# Altium integrated library Lattice SPLD GAL.IntLib: 360 symbols (part 5 of 9)
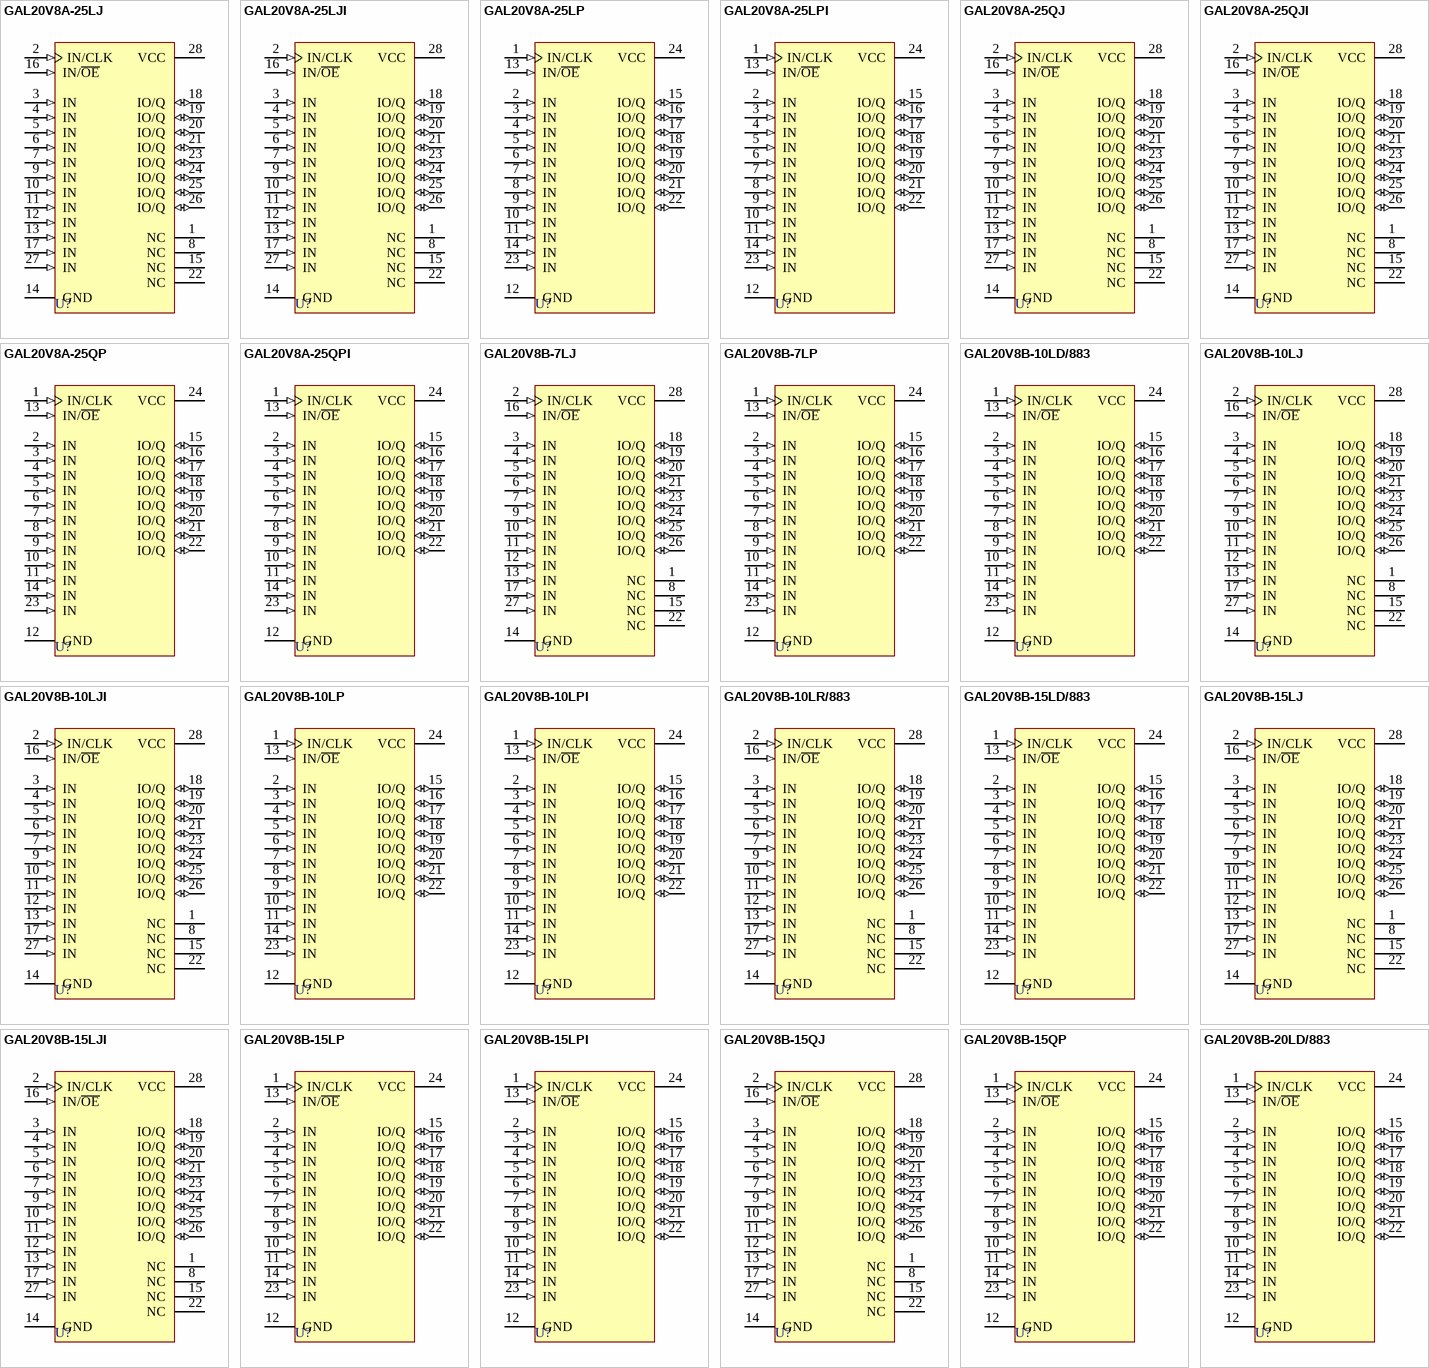
[diagram p17: symbols GAL20V8A-25LJ to GAL20V8B-20LD/883]

## GAL20V8A-25LJI
designator U?
GAL20V8A High Performance E²CMOS PLD Generic Array Logic: 5.0 V, 25 ns, Industrial Grade; Note: Pins 1, 8, 15 and 22 are No internal Connection (NC) pins.; Published: 8-Jun-2000; LatestRevisionDate: 13-Apr-2006; LatestRevisionNote: IPC-7351 Footprint Added.; DatasheetVersion: May-1992; PackageVersion: pkg_32, Aug-2005; PackageReference: PLCC28; Publisher: Altium Limited; PackageDescription: 28-Pin Leaded Chip Carrier 1.27 mm Pitch; Code_IPC: PLCC-28; ComponentLink1Description: Manufacturer Link; ComponentLink1URL: http://www.latticesemi.com/products/spld/GAL/index.cfm
footprint PLCC28_N (Leaded Chip Carrier, 28-Leads, Body 11.5x11.5mm, Pitch 1.27mm, IPC Medium Density)
footprint PLCC28_L (Leaded Chip Carrier, 28-Leads, Body 11.5x11.5mm, Pitch 1.27mm, IPC High Density)
footprint PLCC28_M (Leaded Chip Carrier, 28-Leads, Body 11.5x11.5mm, Pitch 1.27mm, IPC Low Density)
3D model 20V8-PLCC28 (28-Pin Leaded Chip Carrier 1.27 mm Pitch)
pins: 1 NC, 2 IN/CLK (in), 3 IN (in), 4 IN (in), 5 IN (in), 6 IN (in), 7 IN (in), 8 NC, 9 IN (in), 10 IN (in), 11 IN (in), 12 IN (in), 13 IN (in), 14 GND (power), 15 NC, 16 IN/~{OE} (in), 17 IN (in), 18 IO/Q (io), 19 IO/Q (io), 20 IO/Q (io), 21 IO/Q (io), 22 NC, 23 IO/Q (io), 24 IO/Q (io), 25 IO/Q (io), 26 IO/Q (io), 27 IN (in), 28 VCC (power)

## GAL20V8A-25LP
designator U?
GAL20V8A High Performance E²CMOS PLD Generic Array Logic: 5.0 V, 25 ns, Commercial Grade; Published: 8-Jun-2000; LatestRevisionDate: 04-Mar-2005; LatestRevisionNote: Stylized 3D Model Added.; DatasheetVersion: May-1992; PackageVersion: pkg_32, Aug-2005; PackageReference: PDIP24; Publisher: Altium Limited; PackageDescription: DIP; 24 Leads; Row Spacing 7.62 mm; Pitch 2.54 mm; Code_JEDEC: MS-001-AF; ComponentLink1Description: Manufacturer Link; ComponentLink1URL: http://www.latticesemi.com/products/spld/GAL/index.cfm
footprint PDIP24 (DIP; 24 Leads; Row Spacing 7.62 mm; Pitch 2.54 mm)
3D model DIP24 (DIP; 24 Leads; Row Spacing 7.62 mm; Pitch 2.54 mm)
pins: 1 IN/CLK (in), 2 IN (in), 3 IN (in), 4 IN (in), 5 IN (in), 6 IN (in), 7 IN (in), 8 IN (in), 9 IN (in), 10 IN (in), 11 IN (in), 12 GND (power), 13 IN/~{OE} (in), 14 IN (in), 15 IO/Q (io), 16 IO/Q (io), 17 IO/Q (io), 18 IO/Q (io), 19 IO/Q (io), 20 IO/Q (io), 21 IO/Q (io), 22 IO/Q (io), 23 IN (in), 24 VCC (power)

## GAL20V8A-25LPI
designator U?
GAL20V8A High Performance E²CMOS PLD Generic Array Logic: 5.0 V, 25 ns, Industrial Grade; Published: 8-Jun-2000; LatestRevisionDate: 04-Mar-2005; LatestRevisionNote: Stylized 3D Model Added.; DatasheetVersion: May-1992; PackageVersion: pkg_32, Aug-2005; PackageReference: PDIP24; Publisher: Altium Limited; PackageDescription: DIP; 24 Leads; Row Spacing 7.62 mm; Pitch 2.54 mm; Code_JEDEC: MS-001-AF; ComponentLink1Description: Manufacturer Link; ComponentLink1URL: http://www.latticesemi.com/products/spld/GAL/index.cfm
footprint PDIP24 (DIP; 24 Leads; Row Spacing 7.62 mm; Pitch 2.54 mm)
3D model DIP24 (DIP; 24 Leads; Row Spacing 7.62 mm; Pitch 2.54 mm)
pins: 1 IN/CLK (in), 2 IN (in), 3 IN (in), 4 IN (in), 5 IN (in), 6 IN (in), 7 IN (in), 8 IN (in), 9 IN (in), 10 IN (in), 11 IN (in), 12 GND (power), 13 IN/~{OE} (in), 14 IN (in), 15 IO/Q (io), 16 IO/Q (io), 17 IO/Q (io), 18 IO/Q (io), 19 IO/Q (io), 20 IO/Q (io), 21 IO/Q (io), 22 IO/Q (io), 23 IN (in), 24 VCC (power)

## GAL20V8A-25QJ
designator U?
GAL20V8A High Performance E²CMOS PLD Generic Array Logic: 5.0 V, 25 ns, Commercial Grade; Note: Pins 1, 8, 15 and 22 are No internal Connection (NC) pins.; Published: 8-Jun-2000; LatestRevisionDate: 13-Apr-2006; LatestRevisionNote: IPC-7351 Footprint Added.; DatasheetVersion: May-1992; PackageVersion: pkg_32, Aug-2005; PackageReference: PLCC28; Publisher: Altium Limited; PackageDescription: 28-Pin Leaded Chip Carrier 1.27 mm Pitch; Code_IPC: PLCC-28; ComponentLink1Description: Manufacturer Link; ComponentLink1URL: http://www.latticesemi.com/products/spld/GAL/index.cfm
footprint PLCC28_N (Leaded Chip Carrier, 28-Leads, Body 11.5x11.5mm, Pitch 1.27mm, IPC Medium Density)
footprint PLCC28_L (Leaded Chip Carrier, 28-Leads, Body 11.5x11.5mm, Pitch 1.27mm, IPC High Density)
footprint PLCC28_M (Leaded Chip Carrier, 28-Leads, Body 11.5x11.5mm, Pitch 1.27mm, IPC Low Density)
3D model 20V8-PLCC28 (28-Pin Leaded Chip Carrier 1.27 mm Pitch)
pins: 1 NC, 2 IN/CLK (in), 3 IN (in), 4 IN (in), 5 IN (in), 6 IN (in), 7 IN (in), 8 NC, 9 IN (in), 10 IN (in), 11 IN (in), 12 IN (in), 13 IN (in), 14 GND (power), 15 NC, 16 IN/~{OE} (in), 17 IN (in), 18 IO/Q (io), 19 IO/Q (io), 20 IO/Q (io), 21 IO/Q (io), 22 NC, 23 IO/Q (io), 24 IO/Q (io), 25 IO/Q (io), 26 IO/Q (io), 27 IN (in), 28 VCC (power)

## GAL20V8A-25QJI
designator U?
GAL20V8A High Performance E²CMOS PLD Generic Array Logic: 5.0 V, 25 ns, Industrial Grade; Note: Pins 1, 8, 15 and 22 are No internal Connection (NC) pins.; Published: 8-Jun-2000; LatestRevisionDate: 13-Apr-2006; LatestRevisionNote: IPC-7351 Footprint Added.; DatasheetVersion: May-1992; PackageVersion: pkg_32, Aug-2005; PackageReference: PLCC28; Publisher: Altium Limited; PackageDescription: 28-Pin Leaded Chip Carrier 1.27 mm Pitch; Code_IPC: PLCC-28; ComponentLink1Description: Manufacturer Link; ComponentLink1URL: http://www.latticesemi.com/products/spld/GAL/index.cfm
footprint PLCC28_N (Leaded Chip Carrier, 28-Leads, Body 11.5x11.5mm, Pitch 1.27mm, IPC Medium Density)
footprint PLCC28_L (Leaded Chip Carrier, 28-Leads, Body 11.5x11.5mm, Pitch 1.27mm, IPC High Density)
footprint PLCC28_M (Leaded Chip Carrier, 28-Leads, Body 11.5x11.5mm, Pitch 1.27mm, IPC Low Density)
3D model 20V8-PLCC28 (28-Pin Leaded Chip Carrier 1.27 mm Pitch)
pins: 1 NC, 2 IN/CLK (in), 3 IN (in), 4 IN (in), 5 IN (in), 6 IN (in), 7 IN (in), 8 NC, 9 IN (in), 10 IN (in), 11 IN (in), 12 IN (in), 13 IN (in), 14 GND (power), 15 NC, 16 IN/~{OE} (in), 17 IN (in), 18 IO/Q (io), 19 IO/Q (io), 20 IO/Q (io), 21 IO/Q (io), 22 NC, 23 IO/Q (io), 24 IO/Q (io), 25 IO/Q (io), 26 IO/Q (io), 27 IN (in), 28 VCC (power)

## GAL20V8A-25QP
designator U?
GAL20V8A High Performance E²CMOS PLD Generic Array Logic: 5.0 V, 25 ns, Commercial Grade; Published: 8-Jun-2000; LatestRevisionDate: 04-Mar-2005; LatestRevisionNote: Stylized 3D Model Added.; DatasheetVersion: May-1992; PackageVersion: pkg_32, Aug-2005; PackageReference: PDIP24; Publisher: Altium Limited; PackageDescription: DIP; 24 Leads; Row Spacing 7.62 mm; Pitch 2.54 mm; Code_JEDEC: MS-001-AF; ComponentLink1Description: Manufacturer Link; ComponentLink1URL: http://www.latticesemi.com/products/spld/GAL/index.cfm
footprint PDIP24 (DIP; 24 Leads; Row Spacing 7.62 mm; Pitch 2.54 mm)
3D model DIP24 (DIP; 24 Leads; Row Spacing 7.62 mm; Pitch 2.54 mm)
pins: 1 IN/CLK (in), 2 IN (in), 3 IN (in), 4 IN (in), 5 IN (in), 6 IN (in), 7 IN (in), 8 IN (in), 9 IN (in), 10 IN (in), 11 IN (in), 12 GND (power), 13 IN/~{OE} (in), 14 IN (in), 15 IO/Q (io), 16 IO/Q (io), 17 IO/Q (io), 18 IO/Q (io), 19 IO/Q (io), 20 IO/Q (io), 21 IO/Q (io), 22 IO/Q (io), 23 IN (in), 24 VCC (power)

## GAL20V8A-25QPI
designator U?
GAL20V8A High Performance E²CMOS PLD Generic Array Logic: 5.0 V, 25 ns, Industrial Grade; Published: 8-Jun-2000; LatestRevisionDate: 04-Mar-2005; LatestRevisionNote: Stylized 3D Model Added.; DatasheetVersion: May-1992; PackageVersion: pkg_32, Aug-2005; PackageReference: PDIP24; Publisher: Altium Limited; PackageDescription: DIP; 24 Leads; Row Spacing 7.62 mm; Pitch 2.54 mm; Code_JEDEC: MS-001-AF; ComponentLink1Description: Manufacturer Link; ComponentLink1URL: http://www.latticesemi.com/products/spld/GAL/index.cfm
footprint PDIP24 (DIP; 24 Leads; Row Spacing 7.62 mm; Pitch 2.54 mm)
3D model DIP24 (DIP; 24 Leads; Row Spacing 7.62 mm; Pitch 2.54 mm)
pins: 1 IN/CLK (in), 2 IN (in), 3 IN (in), 4 IN (in), 5 IN (in), 6 IN (in), 7 IN (in), 8 IN (in), 9 IN (in), 10 IN (in), 11 IN (in), 12 GND (power), 13 IN/~{OE} (in), 14 IN (in), 15 IO/Q (io), 16 IO/Q (io), 17 IO/Q (io), 18 IO/Q (io), 19 IO/Q (io), 20 IO/Q (io), 21 IO/Q (io), 22 IO/Q (io), 23 IN (in), 24 VCC (power)

## GAL20V8B-7LJ
designator U?
GAL20V8 High Performance E²CMOS PLD Generic Array Logic: 5.0 V, 7.5 ns, Commercial Grade; Published: 8-Jun-2000; LatestRevisionDate: 13-Apr-2006; LatestRevisionNote: IPC-7351 Footprint Added.; DatasheetVersion: 20v8_04, Aug-2000; PackageVersion: pkg_32, Aug-2005; PackageReference: PLCC28; Publisher: Altium Limited; PackageDescription: 28-Pin Leaded Chip Carrier 1.27 mm Pitch; Code_IPC: PLCC-28; ComponentLink1Description: Manufacturer Link; ComponentLink1URL: http://www.latticesemi.com/products/spld/GAL/index.cfm; ComponentLink2Description: Datasheet; ComponentLink2URL: http://www.latticesemi.com/lit/docs/datasheets/pal_gal/20v8.pdf
footprint PLCC28_N (Leaded Chip Carrier, 28-Leads, Body 11.5x11.5mm, Pitch 1.27mm, IPC Medium Density)
footprint PLCC28_L (Leaded Chip Carrier, 28-Leads, Body 11.5x11.5mm, Pitch 1.27mm, IPC High Density)
footprint PLCC28_M (Leaded Chip Carrier, 28-Leads, Body 11.5x11.5mm, Pitch 1.27mm, IPC Low Density)
3D model 20V8-PLCC28 (28-Pin Leaded Chip Carrier 1.27 mm Pitch)
pins: 1 NC, 2 IN/CLK (in), 3 IN (in), 4 IN (in), 5 IN (in), 6 IN (in), 7 IN (in), 8 NC, 9 IN (in), 10 IN (in), 11 IN (in), 12 IN (in), 13 IN (in), 14 GND (power), 15 NC, 16 IN/~{OE} (in), 17 IN (in), 18 IO/Q (io), 19 IO/Q (io), 20 IO/Q (io), 21 IO/Q (io), 22 NC, 23 IO/Q (io), 24 IO/Q (io), 25 IO/Q (io), 26 IO/Q (io), 27 IN (in), 28 VCC (power)

## GAL20V8B-7LP
designator U?
GAL20V8 High Performance E²CMOS PLD Generic Array Logic: 5.0 V, 7.5 ns, Commercial Grade; Published: 8-Jun-2000; LatestRevisionDate: 04-Mar-2005; LatestRevisionNote: Stylized 3D Model Added.; DatasheetVersion: 20v8_04, Aug-2000; PackageVersion: pkg_32, Aug-2005; PackageReference: PDIP24; Publisher: Altium Limited; PackageDescription: DIP; 24 Leads; Row Spacing 7.62 mm; Pitch 2.54 mm; Code_JEDEC: MS-001-AF; ComponentLink1Description: Manufacturer Link; ComponentLink1URL: http://www.latticesemi.com/products/spld/GAL/index.cfm; ComponentLink2Description: Datasheet; ComponentLink2URL: http://www.latticesemi.com/lit/docs/datasheets/pal_gal/20v8.pdf
footprint PDIP24 (DIP; 24 Leads; Row Spacing 7.62 mm; Pitch 2.54 mm)
3D model DIP24 (DIP; 24 Leads; Row Spacing 7.62 mm; Pitch 2.54 mm)
pins: 1 IN/CLK (in), 2 IN (in), 3 IN (in), 4 IN (in), 5 IN (in), 6 IN (in), 7 IN (in), 8 IN (in), 9 IN (in), 10 IN (in), 11 IN (in), 12 GND (power), 13 IN/~{OE} (in), 14 IN (in), 15 IO/Q (io), 16 IO/Q (io), 17 IO/Q (io), 18 IO/Q (io), 19 IO/Q (io), 20 IO/Q (io), 21 IO/Q (io), 22 IO/Q (io), 23 IN (in), 24 VCC (power)

## GAL20V8B-10LD/883
designator U?
GAL20V8/883 High Performance E²CMOS PLD Generic Array Logic: 5.0 V, 10 ns, Military Grade; Published: 17-Jul-2002; LatestRevisionDate: 04-Mar-2005; LatestRevisionNote: Stylized 3D Model Added.; DatasheetVersion: 20v8mil_02, Jul-1997; PackageVersion: pkg_32, Aug-2005; PackageReference: CDIP24; Publisher: Altium Limited; PackageDescription: CerDIP; 24 Leads; Row Spacing 7.62 mm; Pitch 2.54 mm; Code_JEDEC: MS-001-AF; ComponentLink1Description: Manufacturer Link; ComponentLink1URL: http://www.latticesemi.com/products/spld/GAL/index.cfm; ComponentLink2Description: Datasheet; ComponentLink2URL: http://www.latticesemi.com/lit/docs/military/20v8mil.pdf
footprint CDIP24 (CerDIP; 24 Leads; Row Spacing 7.62 mm; Pitch 2.54 mm)
3D model DIP24 (CerDIP; 24 Leads; Row Spacing 7.62 mm; Pitch 2.54 mm)
pins: 1 IN/CLK (in), 2 IN (in), 3 IN (in), 4 IN (in), 5 IN (in), 6 IN (in), 7 IN (in), 8 IN (in), 9 IN (in), 10 IN (in), 11 IN (in), 12 GND (power), 13 IN/~{OE} (in), 14 IN (in), 15 IO/Q (io), 16 IO/Q (io), 17 IO/Q (io), 18 IO/Q (io), 19 IO/Q (io), 20 IO/Q (io), 21 IO/Q (io), 22 IO/Q (io), 23 IN (in), 24 VCC (power)

## GAL20V8B-10LJ
designator U?
GAL20V8 High Performance E²CMOS PLD Generic Array Logic: 5.0 V, 10 ns, Commercial Grade; Published: 8-Jun-2000; LatestRevisionDate: 13-Apr-2006; LatestRevisionNote: IPC-7351 Footprint Added.; DatasheetVersion: 20v8_04, Aug-2000; PackageVersion: pkg_32, Aug-2005; PackageReference: PLCC28; Publisher: Altium Limited; PackageDescription: 28-Pin Leaded Chip Carrier 1.27 mm Pitch; Code_IPC: PLCC-28; ComponentLink1Description: Manufacturer Link; ComponentLink1URL: http://www.latticesemi.com/products/spld/GAL/index.cfm; ComponentLink2Description: Datasheet; ComponentLink2URL: http://www.latticesemi.com/lit/docs/datasheets/pal_gal/20v8.pdf
footprint PLCC28_N (Leaded Chip Carrier, 28-Leads, Body 11.5x11.5mm, Pitch 1.27mm, IPC Medium Density)
footprint PLCC28_L (Leaded Chip Carrier, 28-Leads, Body 11.5x11.5mm, Pitch 1.27mm, IPC High Density)
footprint PLCC28_M (Leaded Chip Carrier, 28-Leads, Body 11.5x11.5mm, Pitch 1.27mm, IPC Low Density)
3D model 20V8-PLCC28 (28-Pin Leaded Chip Carrier 1.27 mm Pitch)
pins: 1 NC, 2 IN/CLK (in), 3 IN (in), 4 IN (in), 5 IN (in), 6 IN (in), 7 IN (in), 8 NC, 9 IN (in), 10 IN (in), 11 IN (in), 12 IN (in), 13 IN (in), 14 GND (power), 15 NC, 16 IN/~{OE} (in), 17 IN (in), 18 IO/Q (io), 19 IO/Q (io), 20 IO/Q (io), 21 IO/Q (io), 22 NC, 23 IO/Q (io), 24 IO/Q (io), 25 IO/Q (io), 26 IO/Q (io), 27 IN (in), 28 VCC (power)

## GAL20V8B-10LJI
designator U?
GAL20V8 High Performance E²CMOS PLD Generic Array Logic: 5.0 V, 10 ns, Industrial Grade; Published: 8-Jun-2000; LatestRevisionDate: 13-Apr-2006; LatestRevisionNote: IPC-7351 Footprint Added.; DatasheetVersion: 20v8_04, Aug-2000; PackageVersion: pkg_32, Aug-2005; PackageReference: PLCC28; Publisher: Altium Limited; PackageDescription: 28-Pin Leaded Chip Carrier 1.27 mm Pitch; Code_IPC: PLCC-28; ComponentLink1Description: Manufacturer Link; ComponentLink1URL: http://www.latticesemi.com/products/spld/GAL/index.cfm; ComponentLink2Description: Datasheet; ComponentLink2URL: http://www.latticesemi.com/lit/docs/datasheets/pal_gal/20v8.pdf
footprint PLCC28_N (Leaded Chip Carrier, 28-Leads, Body 11.5x11.5mm, Pitch 1.27mm, IPC Medium Density)
footprint PLCC28_L (Leaded Chip Carrier, 28-Leads, Body 11.5x11.5mm, Pitch 1.27mm, IPC High Density)
footprint PLCC28_M (Leaded Chip Carrier, 28-Leads, Body 11.5x11.5mm, Pitch 1.27mm, IPC Low Density)
3D model 20V8-PLCC28 (28-Pin Leaded Chip Carrier 1.27 mm Pitch)
pins: 1 NC, 2 IN/CLK (in), 3 IN (in), 4 IN (in), 5 IN (in), 6 IN (in), 7 IN (in), 8 NC, 9 IN (in), 10 IN (in), 11 IN (in), 12 IN (in), 13 IN (in), 14 GND (power), 15 NC, 16 IN/~{OE} (in), 17 IN (in), 18 IO/Q (io), 19 IO/Q (io), 20 IO/Q (io), 21 IO/Q (io), 22 NC, 23 IO/Q (io), 24 IO/Q (io), 25 IO/Q (io), 26 IO/Q (io), 27 IN (in), 28 VCC (power)

## GAL20V8B-10LP
designator U?
GAL20V8 High Performance E²CMOS PLD Generic Array Logic: 5.0 V, 10 ns, Commercial Grade; Published: 8-Jun-2000; LatestRevisionDate: 04-Mar-2005; LatestRevisionNote: Stylized 3D Model Added.; DatasheetVersion: 20v8_04, Aug-2000; PackageVersion: pkg_32, Aug-2005; PackageReference: PDIP24; Publisher: Altium Limited; PackageDescription: DIP; 24 Leads; Row Spacing 7.62 mm; Pitch 2.54 mm; Code_JEDEC: MS-001-AF; ComponentLink1Description: Manufacturer Link; ComponentLink1URL: http://www.latticesemi.com/products/spld/GAL/index.cfm; ComponentLink2Description: Datasheet; ComponentLink2URL: http://www.latticesemi.com/lit/docs/datasheets/pal_gal/20v8.pdf
footprint PDIP24 (DIP; 24 Leads; Row Spacing 7.62 mm; Pitch 2.54 mm)
3D model DIP24 (DIP; 24 Leads; Row Spacing 7.62 mm; Pitch 2.54 mm)
pins: 1 IN/CLK (in), 2 IN (in), 3 IN (in), 4 IN (in), 5 IN (in), 6 IN (in), 7 IN (in), 8 IN (in), 9 IN (in), 10 IN (in), 11 IN (in), 12 GND (power), 13 IN/~{OE} (in), 14 IN (in), 15 IO/Q (io), 16 IO/Q (io), 17 IO/Q (io), 18 IO/Q (io), 19 IO/Q (io), 20 IO/Q (io), 21 IO/Q (io), 22 IO/Q (io), 23 IN (in), 24 VCC (power)

## GAL20V8B-10LPI
designator U?
GAL20V8 High Performance E²CMOS PLD Generic Array Logic: 5.0 V, 10 ns, Industrial Grade; Published: 8-Jun-2000; LatestRevisionDate: 04-Mar-2005; LatestRevisionNote: Stylized 3D Model Added.; DatasheetVersion: 20v8_04, Aug-2000; PackageVersion: pkg_32, Aug-2005; PackageReference: PDIP24; Publisher: Altium Limited; PackageDescription: DIP; 24 Leads; Row Spacing 7.62 mm; Pitch 2.54 mm; Code_JEDEC: MS-001-AF; ComponentLink1Description: Manufacturer Link; ComponentLink1URL: http://www.latticesemi.com/products/spld/GAL/index.cfm; ComponentLink2Description: Datasheet; ComponentLink2URL: http://www.latticesemi.com/lit/docs/datasheets/pal_gal/20v8.pdf
footprint PDIP24 (DIP; 24 Leads; Row Spacing 7.62 mm; Pitch 2.54 mm)
3D model DIP24 (DIP; 24 Leads; Row Spacing 7.62 mm; Pitch 2.54 mm)
pins: 1 IN/CLK (in), 2 IN (in), 3 IN (in), 4 IN (in), 5 IN (in), 6 IN (in), 7 IN (in), 8 IN (in), 9 IN (in), 10 IN (in), 11 IN (in), 12 GND (power), 13 IN/~{OE} (in), 14 IN (in), 15 IO/Q (io), 16 IO/Q (io), 17 IO/Q (io), 18 IO/Q (io), 19 IO/Q (io), 20 IO/Q (io), 21 IO/Q (io), 22 IO/Q (io), 23 IN (in), 24 VCC (power)

## GAL20V8B-10LR/883
designator U?
GAL20V8/883 High Performance E²CMOS PLD Generic Array Logic: 5.0 V, 10 ns, Military Grade; Published: 17-Jul-2002; DatasheetVersion: 20v8mil_02, Jul-1997; PackageVersion: pkg_32, Aug-2005; PackageReference: LCC28; Publisher: Altium Limited; PackageDescription: Leadless Chip Carrier; 28 Terminals; Body 11.5 x 11.5 mm; ComponentLink1Description: Manufacturer Link; ComponentLink1URL: http://www.latticesemi.com/products/spld/GAL/index.cfm; ComponentLink2Description: Datasheet; ComponentLink2URL: http://www.latticesemi.com/lit/docs/military/20v8mil.pdf
footprint LCC28 (Leadless Chip Carrier; 28 Terminals; Body 11.5 x 11.5 mm)
pins: 1 NC, 2 IN/CLK (in), 3 IN (in), 4 IN (in), 5 IN (in), 6 IN (in), 7 IN (in), 8 NC, 9 IN (in), 10 IN (in), 11 IN (in), 12 IN (in), 13 IN (in), 14 GND (power), 15 NC, 16 IN/~{OE} (in), 17 IN (in), 18 IO/Q (io), 19 IO/Q (io), 20 IO/Q (io), 21 IO/Q (io), 22 NC, 23 IO/Q (io), 24 IO/Q (io), 25 IO/Q (io), 26 IO/Q (io), 27 IN (in), 28 VCC (power)

## GAL20V8B-15LD/883
designator U?
GAL20V8/883 High Performance E²CMOS PLD Generic Array Logic: 5.0 V, 15 ns, Military Grade; Published: 17-Jul-2002; LatestRevisionDate: 04-Mar-2005; LatestRevisionNote: Stylized 3D Model Added.; DatasheetVersion: 20v8mil_02, Jul-1997; PackageVersion: pkg_32, Aug-2005; PackageReference: CDIP24; Publisher: Altium Limited; PackageDescription: CerDIP; 24 Leads; Row Spacing 7.62 mm; Pitch 2.54 mm; Code_JEDEC: MS-001-AF; ComponentLink1Description: Manufacturer Link; ComponentLink1URL: http://www.latticesemi.com/products/spld/GAL/index.cfm; ComponentLink2Description: Datasheet; ComponentLink2URL: http://www.latticesemi.com/lit/docs/military/20v8mil.pdf
footprint CDIP24 (CerDIP; 24 Leads; Row Spacing 7.62 mm; Pitch 2.54 mm)
3D model DIP24 (CerDIP; 24 Leads; Row Spacing 7.62 mm; Pitch 2.54 mm)
pins: 1 IN/CLK (in), 2 IN (in), 3 IN (in), 4 IN (in), 5 IN (in), 6 IN (in), 7 IN (in), 8 IN (in), 9 IN (in), 10 IN (in), 11 IN (in), 12 GND (power), 13 IN/~{OE} (in), 14 IN (in), 15 IO/Q (io), 16 IO/Q (io), 17 IO/Q (io), 18 IO/Q (io), 19 IO/Q (io), 20 IO/Q (io), 21 IO/Q (io), 22 IO/Q (io), 23 IN (in), 24 VCC (power)

## GAL20V8B-15LJ
designator U?
GAL20V8 High Performance E²CMOS PLD Generic Array Logic: 5.0 V, 15 ns, Commercial Grade; Published: 17-Jul-2002; LatestRevisionDate: 13-Apr-2006; LatestRevisionNote: IPC-7351 Footprint Added.; DatasheetVersion: 20v8_04, Aug-2000; PackageVersion: pkg_32, Aug-2005; PackageReference: PLCC28; Publisher: Altium Limited; PackageDescription: 28-Pin Leaded Chip Carrier 1.27 mm Pitch; Code_IPC: PLCC-28; ComponentLink1Description: Manufacturer Link; ComponentLink1URL: http://www.latticesemi.com/products/spld/GAL/index.cfm; ComponentLink2Description: Datasheet; ComponentLink2URL: http://www.latticesemi.com/lit/docs/datasheets/pal_gal/20v8.pdf
footprint PLCC28_N (Leaded Chip Carrier, 28-Leads, Body 11.5x11.5mm, Pitch 1.27mm, IPC Medium Density)
footprint PLCC28_L (Leaded Chip Carrier, 28-Leads, Body 11.5x11.5mm, Pitch 1.27mm, IPC High Density)
footprint PLCC28_M (Leaded Chip Carrier, 28-Leads, Body 11.5x11.5mm, Pitch 1.27mm, IPC Low Density)
3D model 20V8-PLCC28 (28-Pin Leaded Chip Carrier 1.27 mm Pitch)
pins: 1 NC, 2 IN/CLK (in), 3 IN (in), 4 IN (in), 5 IN (in), 6 IN (in), 7 IN (in), 8 NC, 9 IN (in), 10 IN (in), 11 IN (in), 12 IN (in), 13 IN (in), 14 GND (power), 15 NC, 16 IN/~{OE} (in), 17 IN (in), 18 IO/Q (io), 19 IO/Q (io), 20 IO/Q (io), 21 IO/Q (io), 22 NC, 23 IO/Q (io), 24 IO/Q (io), 25 IO/Q (io), 26 IO/Q (io), 27 IN (in), 28 VCC (power)

## GAL20V8B-15LJI
designator U?
GAL20V8 High Performance E²CMOS PLD Generic Array Logic: 5.0 V, 15 ns, Industrial Grade; Published: 8-Jun-2000; LatestRevisionDate: 13-Apr-2006; LatestRevisionNote: IPC-7351 Footprint Added.; DatasheetVersion: 20v8_04, Aug-2000; PackageVersion: pkg_32, Aug-2005; PackageReference: PLCC28; Publisher: Altium Limited; PackageDescription: 28-Pin Leaded Chip Carrier 1.27 mm Pitch; Code_IPC: PLCC-28; ComponentLink1Description: Manufacturer Link; ComponentLink1URL: http://www.latticesemi.com/products/spld/GAL/index.cfm; ComponentLink2Description: Datasheet; ComponentLink2URL: http://www.latticesemi.com/lit/docs/datasheets/pal_gal/20v8.pdf
footprint PLCC28_N (Leaded Chip Carrier, 28-Leads, Body 11.5x11.5mm, Pitch 1.27mm, IPC Medium Density)
footprint PLCC28_L (Leaded Chip Carrier, 28-Leads, Body 11.5x11.5mm, Pitch 1.27mm, IPC High Density)
footprint PLCC28_M (Leaded Chip Carrier, 28-Leads, Body 11.5x11.5mm, Pitch 1.27mm, IPC Low Density)
3D model 20V8-PLCC28 (28-Pin Leaded Chip Carrier 1.27 mm Pitch)
pins: 1 NC, 2 IN/CLK (in), 3 IN (in), 4 IN (in), 5 IN (in), 6 IN (in), 7 IN (in), 8 NC, 9 IN (in), 10 IN (in), 11 IN (in), 12 IN (in), 13 IN (in), 14 GND (power), 15 NC, 16 IN/~{OE} (in), 17 IN (in), 18 IO/Q (io), 19 IO/Q (io), 20 IO/Q (io), 21 IO/Q (io), 22 NC, 23 IO/Q (io), 24 IO/Q (io), 25 IO/Q (io), 26 IO/Q (io), 27 IN (in), 28 VCC (power)

## GAL20V8B-15LP
designator U?
GAL20V8 High Performance E²CMOS PLD Generic Array Logic: 5.0 V, 15 ns, Commercial Grade; Published: 8-Jun-2000; LatestRevisionDate: 04-Mar-2005; LatestRevisionNote: Stylized 3D Model Added.; DatasheetVersion: 20v8_04, Aug-2000; PackageVersion: pkg_32, Aug-2005; PackageReference: PDIP24; Publisher: Altium Limited; PackageDescription: DIP; 24 Leads; Row Spacing 7.62 mm; Pitch 2.54 mm; Code_JEDEC: MS-001-AF; ComponentLink1Description: Manufacturer Link; ComponentLink1URL: http://www.latticesemi.com/products/spld/GAL/index.cfm; ComponentLink2Description: Datasheet; ComponentLink2URL: http://www.latticesemi.com/lit/docs/datasheets/pal_gal/20v8.pdf
footprint PDIP24 (DIP; 24 Leads; Row Spacing 7.62 mm; Pitch 2.54 mm)
3D model DIP24 (DIP; 24 Leads; Row Spacing 7.62 mm; Pitch 2.54 mm)
pins: 1 IN/CLK (in), 2 IN (in), 3 IN (in), 4 IN (in), 5 IN (in), 6 IN (in), 7 IN (in), 8 IN (in), 9 IN (in), 10 IN (in), 11 IN (in), 12 GND (power), 13 IN/~{OE} (in), 14 IN (in), 15 IO/Q (io), 16 IO/Q (io), 17 IO/Q (io), 18 IO/Q (io), 19 IO/Q (io), 20 IO/Q (io), 21 IO/Q (io), 22 IO/Q (io), 23 IN (in), 24 VCC (power)

## GAL20V8B-15LPI
designator U?
GAL20V8 High Performance E²CMOS PLD Generic Array Logic: 5.0 V, 15 ns, Industrial Grade; Published: 8-Jun-2000; LatestRevisionDate: 04-Mar-2005; LatestRevisionNote: Stylized 3D Model Added.; DatasheetVersion: 20v8_04, Aug-2000; PackageVersion: pkg_32, Aug-2005; PackageReference: PDIP24; Publisher: Altium Limited; PackageDescription: DIP; 24 Leads; Row Spacing 7.62 mm; Pitch 2.54 mm; Code_JEDEC: MS-001-AF; ComponentLink1Description: Manufacturer Link; ComponentLink1URL: http://www.latticesemi.com/products/spld/GAL/index.cfm; ComponentLink2Description: Datasheet; ComponentLink2URL: http://www.latticesemi.com/lit/docs/datasheets/pal_gal/20v8.pdf
footprint PDIP24 (DIP; 24 Leads; Row Spacing 7.62 mm; Pitch 2.54 mm)
3D model DIP24 (DIP; 24 Leads; Row Spacing 7.62 mm; Pitch 2.54 mm)
pins: 1 IN/CLK (in), 2 IN (in), 3 IN (in), 4 IN (in), 5 IN (in), 6 IN (in), 7 IN (in), 8 IN (in), 9 IN (in), 10 IN (in), 11 IN (in), 12 GND (power), 13 IN/~{OE} (in), 14 IN (in), 15 IO/Q (io), 16 IO/Q (io), 17 IO/Q (io), 18 IO/Q (io), 19 IO/Q (io), 20 IO/Q (io), 21 IO/Q (io), 22 IO/Q (io), 23 IN (in), 24 VCC (power)

## GAL20V8B-15QJ
designator U?
GAL20V8 High Performance E²CMOS PLD Generic Array Logic: 5.0 V, 15 ns, Commercial Grade; Published: 17-Jul-2002; LatestRevisionDate: 13-Apr-2006; LatestRevisionNote: IPC-7351 Footprint Added.; DatasheetVersion: 20v8_04, Aug-2000; PackageVersion: pkg_32, Aug-2005; PackageReference: PLCC28; Publisher: Altium Limited; PackageDescription: 28-Pin Leaded Chip Carrier 1.27 mm Pitch; Code_IPC: PLCC-28; ComponentLink1Description: Manufacturer Link; ComponentLink1URL: http://www.latticesemi.com/products/spld/GAL/index.cfm; ComponentLink2Description: Datasheet; ComponentLink2URL: http://www.latticesemi.com/lit/docs/datasheets/pal_gal/20v8.pdf
footprint PLCC28_N (Leaded Chip Carrier, 28-Leads, Body 11.5x11.5mm, Pitch 1.27mm, IPC Medium Density)
footprint PLCC28_L (Leaded Chip Carrier, 28-Leads, Body 11.5x11.5mm, Pitch 1.27mm, IPC High Density)
footprint PLCC28_M (Leaded Chip Carrier, 28-Leads, Body 11.5x11.5mm, Pitch 1.27mm, IPC Low Density)
3D model 20V8-PLCC28 (28-Pin Leaded Chip Carrier 1.27 mm Pitch)
pins: 1 NC, 2 IN/CLK (in), 3 IN (in), 4 IN (in), 5 IN (in), 6 IN (in), 7 IN (in), 8 NC, 9 IN (in), 10 IN (in), 11 IN (in), 12 IN (in), 13 IN (in), 14 GND (power), 15 NC, 16 IN/~{OE} (in), 17 IN (in), 18 IO/Q (io), 19 IO/Q (io), 20 IO/Q (io), 21 IO/Q (io), 22 NC, 23 IO/Q (io), 24 IO/Q (io), 25 IO/Q (io), 26 IO/Q (io), 27 IN (in), 28 VCC (power)

## GAL20V8B-15QP
designator U?
GAL20V8 High Performance E²CMOS PLD Generic Array Logic: 5.0 V, 15 ns, Commercial Grade; Published: 17-Jul-2002; LatestRevisionDate: 04-Mar-2005; LatestRevisionNote: Stylized 3D Model Added.; DatasheetVersion: 20v8_04, Aug-2000; PackageVersion: pkg_32, Aug-2005; PackageReference: PDIP24; Publisher: Altium Limited; PackageDescription: DIP; 24 Leads; Row Spacing 7.62 mm; Pitch 2.54 mm; Code_JEDEC: MS-001-AF; ComponentLink1Description: Manufacturer Link; ComponentLink1URL: http://www.latticesemi.com/products/spld/GAL/index.cfm; ComponentLink2Description: Datasheet; ComponentLink2URL: http://www.latticesemi.com/lit/docs/datasheets/pal_gal/20v8.pdf
footprint PDIP24 (DIP; 24 Leads; Row Spacing 7.62 mm; Pitch 2.54 mm)
3D model DIP24 (DIP; 24 Leads; Row Spacing 7.62 mm; Pitch 2.54 mm)
pins: 1 IN/CLK (in), 2 IN (in), 3 IN (in), 4 IN (in), 5 IN (in), 6 IN (in), 7 IN (in), 8 IN (in), 9 IN (in), 10 IN (in), 11 IN (in), 12 GND (power), 13 IN/~{OE} (in), 14 IN (in), 15 IO/Q (io), 16 IO/Q (io), 17 IO/Q (io), 18 IO/Q (io), 19 IO/Q (io), 20 IO/Q (io), 21 IO/Q (io), 22 IO/Q (io), 23 IN (in), 24 VCC (power)

## GAL20V8B-20LD/883
designator U?
GAL20V8/883 High Performance E²CMOS PLD Generic Array Logic: 5.0 V, 20 ns, Military Grade; Published: 17-Jul-2002; LatestRevisionDate: 04-Mar-2005; LatestRevisionNote: Stylized 3D Model Added.; DatasheetVersion: 20v8mil_02, Jul-1997; PackageVersion: pkg_32, Aug-2005; PackageReference: CDIP24; Publisher: Altium Limited; PackageDescription: CerDIP; 24 Leads; Row Spacing 7.62 mm; Pitch 2.54 mm; Code_JEDEC: MS-001-AF; ComponentLink1Description: Manufacturer Link; ComponentLink1URL: http://www.latticesemi.com/products/spld/GAL/index.cfm; ComponentLink2Description: Datasheet; ComponentLink2URL: http://www.latticesemi.com/lit/docs/military/20v8mil.pdf
footprint CDIP24 (CerDIP; 24 Leads; Row Spacing 7.62 mm; Pitch 2.54 mm)
3D model DIP24 (CerDIP; 24 Leads; Row Spacing 7.62 mm; Pitch 2.54 mm)
pins: 1 IN/CLK (in), 2 IN (in), 3 IN (in), 4 IN (in), 5 IN (in), 6 IN (in), 7 IN (in), 8 IN (in), 9 IN (in), 10 IN (in), 11 IN (in), 12 GND (power), 13 IN/~{OE} (in), 14 IN (in), 15 IO/Q (io), 16 IO/Q (io), 17 IO/Q (io), 18 IO/Q (io), 19 IO/Q (io), 20 IO/Q (io), 21 IO/Q (io), 22 IO/Q (io), 23 IN (in), 24 VCC (power)

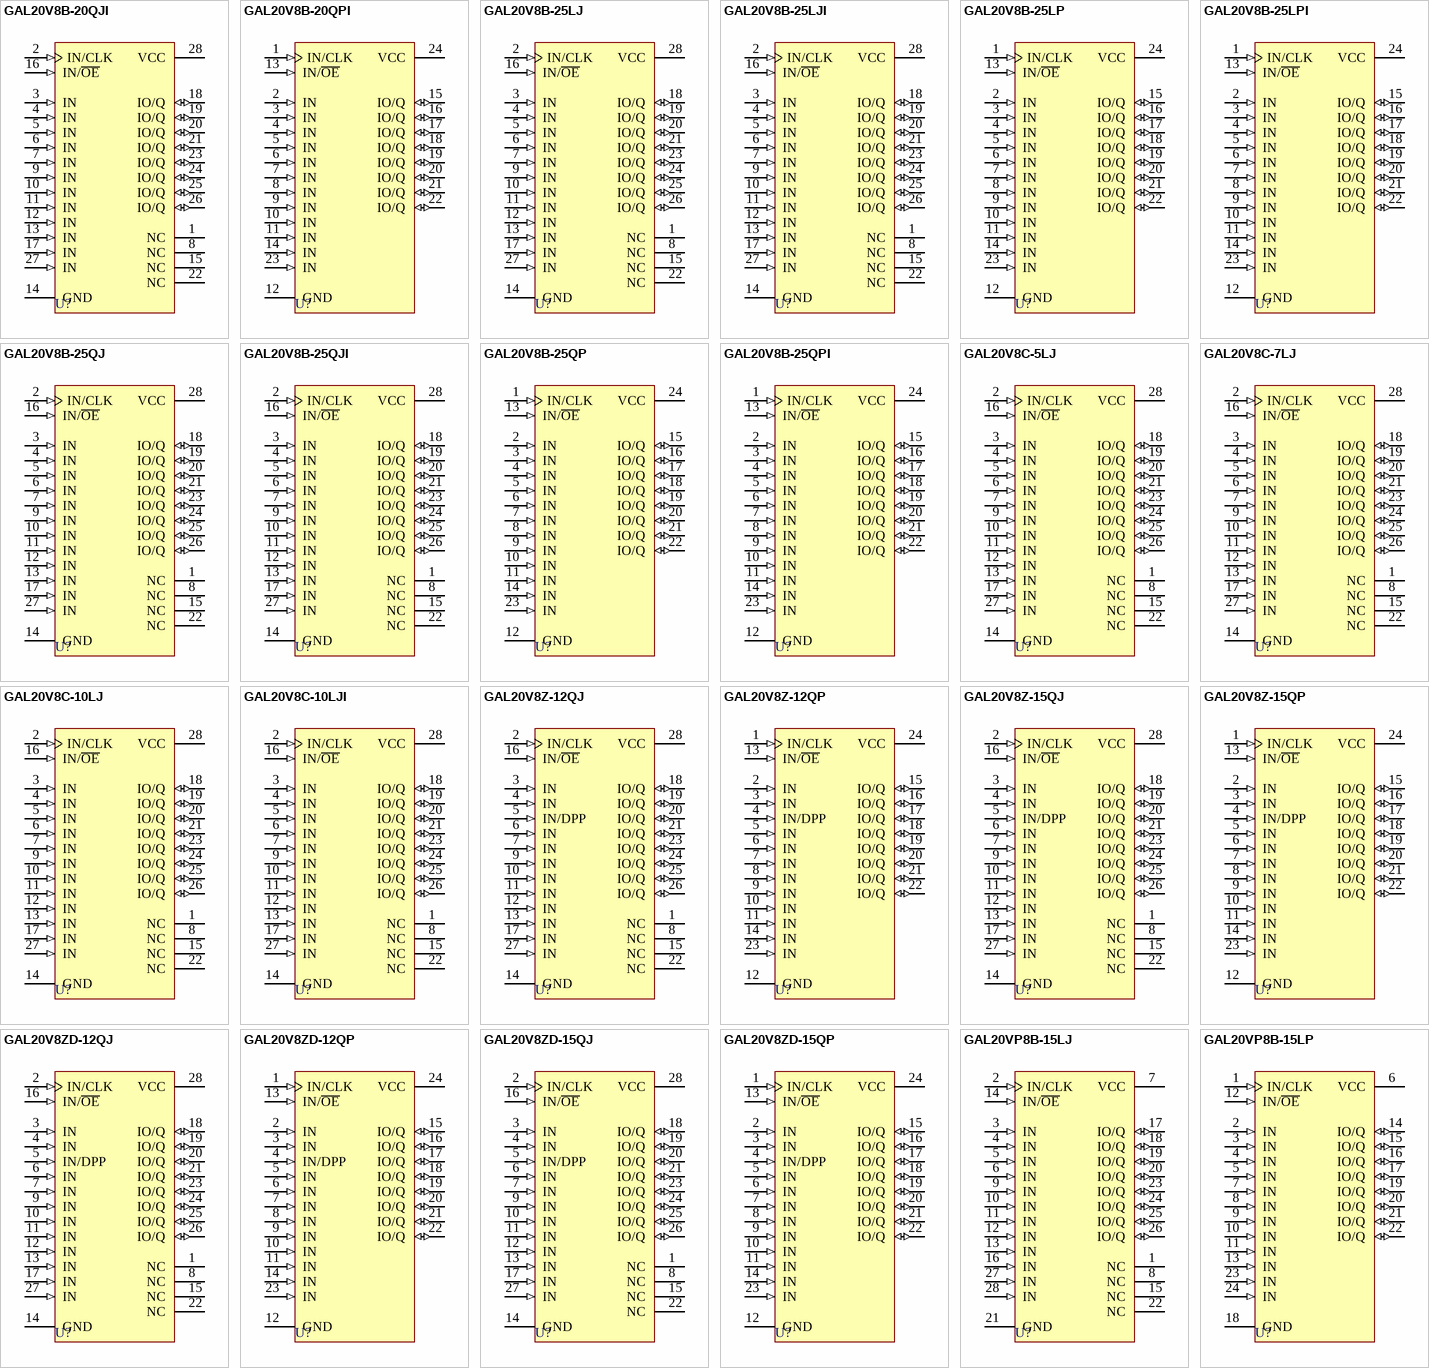
[diagram p7: symbols GAL20V8B-20QJI to GAL20VP8B-15LP]

## GAL20V8B-20QJI
designator U?
GAL20V8 High Performance E²CMOS PLD Generic Array Logic: 5.0 V, 20 ns, Industrial Grade; Published: 17-Jul-2002; LatestRevisionDate: 13-Apr-2006; LatestRevisionNote: IPC-7351 Footprint Added.; DatasheetVersion: 20v8_04, Aug-2000; PackageVersion: pkg_32, Aug-2005; PackageReference: PLCC28; Publisher: Altium Limited; PackageDescription: 28-Pin Leaded Chip Carrier 1.27 mm Pitch; Code_IPC: PLCC-28; ComponentLink1Description: Manufacturer Link; ComponentLink1URL: http://www.latticesemi.com/products/spld/GAL/index.cfm; ComponentLink2Description: Datasheet; ComponentLink2URL: http://www.latticesemi.com/lit/docs/datasheets/pal_gal/20v8.pdf
footprint PLCC28_N (Leaded Chip Carrier, 28-Leads, Body 11.5x11.5mm, Pitch 1.27mm, IPC Medium Density)
footprint PLCC28_L (Leaded Chip Carrier, 28-Leads, Body 11.5x11.5mm, Pitch 1.27mm, IPC High Density)
footprint PLCC28_M (Leaded Chip Carrier, 28-Leads, Body 11.5x11.5mm, Pitch 1.27mm, IPC Low Density)
3D model 20V8-PLCC28 (28-Pin Leaded Chip Carrier 1.27 mm Pitch)
pins: 1 NC, 2 IN/CLK (in), 3 IN (in), 4 IN (in), 5 IN (in), 6 IN (in), 7 IN (in), 8 NC, 9 IN (in), 10 IN (in), 11 IN (in), 12 IN (in), 13 IN (in), 14 GND (power), 15 NC, 16 IN/~{OE} (in), 17 IN (in), 18 IO/Q (io), 19 IO/Q (io), 20 IO/Q (io), 21 IO/Q (io), 22 NC, 23 IO/Q (io), 24 IO/Q (io), 25 IO/Q (io), 26 IO/Q (io), 27 IN (in), 28 VCC (power)

## GAL20V8B-20QPI
designator U?
GAL20V8 High Performance E²CMOS PLD Generic Array Logic: 5.0 V, 20 ns, Industrial Grade; Published: 17-Jul-2002; LatestRevisionDate: 04-Mar-2005; LatestRevisionNote: Stylized 3D Model Added.; DatasheetVersion: 20v8_04, Aug-2000; PackageVersion: pkg_32, Aug-2005; PackageReference: PDIP24; Publisher: Altium Limited; PackageDescription: DIP; 24 Leads; Row Spacing 7.62 mm; Pitch 2.54 mm; Code_JEDEC: MS-001-AF; ComponentLink1Description: Manufacturer Link; ComponentLink1URL: http://www.latticesemi.com/products/spld/GAL/index.cfm; ComponentLink2Description: Datasheet; ComponentLink2URL: http://www.latticesemi.com/lit/docs/datasheets/pal_gal/20v8.pdf
footprint PDIP24 (DIP; 24 Leads; Row Spacing 7.62 mm; Pitch 2.54 mm)
3D model DIP24 (DIP; 24 Leads; Row Spacing 7.62 mm; Pitch 2.54 mm)
pins: 1 IN/CLK (in), 2 IN (in), 3 IN (in), 4 IN (in), 5 IN (in), 6 IN (in), 7 IN (in), 8 IN (in), 9 IN (in), 10 IN (in), 11 IN (in), 12 GND (power), 13 IN/~{OE} (in), 14 IN (in), 15 IO/Q (io), 16 IO/Q (io), 17 IO/Q (io), 18 IO/Q (io), 19 IO/Q (io), 20 IO/Q (io), 21 IO/Q (io), 22 IO/Q (io), 23 IN (in), 24 VCC (power)

## GAL20V8B-25LJ
designator U?
GAL20V8 High Performance E²CMOS PLD Generic Array Logic: 5.0 V, 25 ns, Commercial Grade; Published: 17-Jul-2002; LatestRevisionDate: 13-Apr-2006; LatestRevisionNote: IPC-7351 Footprint Added.; DatasheetVersion: 20v8_04, Aug-2000; PackageVersion: pkg_32, Aug-2005; PackageReference: PLCC28; Publisher: Altium Limited; PackageDescription: 28-Pin Leaded Chip Carrier 1.27 mm Pitch; Code_IPC: PLCC-28; ComponentLink1Description: Manufacturer Link; ComponentLink1URL: http://www.latticesemi.com/products/spld/GAL/index.cfm; ComponentLink2Description: Datasheet; ComponentLink2URL: http://www.latticesemi.com/lit/docs/datasheets/pal_gal/20v8.pdf
footprint PLCC28_N (Leaded Chip Carrier, 28-Leads, Body 11.5x11.5mm, Pitch 1.27mm, IPC Medium Density)
footprint PLCC28_L (Leaded Chip Carrier, 28-Leads, Body 11.5x11.5mm, Pitch 1.27mm, IPC High Density)
footprint PLCC28_M (Leaded Chip Carrier, 28-Leads, Body 11.5x11.5mm, Pitch 1.27mm, IPC Low Density)
3D model 20V8-PLCC28 (28-Pin Leaded Chip Carrier 1.27 mm Pitch)
pins: 1 NC, 2 IN/CLK (in), 3 IN (in), 4 IN (in), 5 IN (in), 6 IN (in), 7 IN (in), 8 NC, 9 IN (in), 10 IN (in), 11 IN (in), 12 IN (in), 13 IN (in), 14 GND (power), 15 NC, 16 IN/~{OE} (in), 17 IN (in), 18 IO/Q (io), 19 IO/Q (io), 20 IO/Q (io), 21 IO/Q (io), 22 NC, 23 IO/Q (io), 24 IO/Q (io), 25 IO/Q (io), 26 IO/Q (io), 27 IN (in), 28 VCC (power)

## GAL20V8B-25LJI
designator U?
GAL20V8 High Performance E²CMOS PLD Generic Array Logic: 5.0 V, 25 ns, Industrial Grade; Published: 17-Jul-2002; LatestRevisionDate: 13-Apr-2006; LatestRevisionNote: IPC-7351 Footprint Added.; DatasheetVersion: 20v8_04, Aug-2000; PackageVersion: pkg_32, Aug-2005; PackageReference: PLCC28; Publisher: Altium Limited; PackageDescription: 28-Pin Leaded Chip Carrier 1.27 mm Pitch; Code_IPC: PLCC-28; ComponentLink1Description: Manufacturer Link; ComponentLink1URL: http://www.latticesemi.com/products/spld/GAL/index.cfm; ComponentLink2Description: Datasheet; ComponentLink2URL: http://www.latticesemi.com/lit/docs/datasheets/pal_gal/20v8.pdf
footprint PLCC28_N (Leaded Chip Carrier, 28-Leads, Body 11.5x11.5mm, Pitch 1.27mm, IPC Medium Density)
footprint PLCC28_L (Leaded Chip Carrier, 28-Leads, Body 11.5x11.5mm, Pitch 1.27mm, IPC High Density)
footprint PLCC28_M (Leaded Chip Carrier, 28-Leads, Body 11.5x11.5mm, Pitch 1.27mm, IPC Low Density)
3D model 20V8-PLCC28 (28-Pin Leaded Chip Carrier 1.27 mm Pitch)
pins: 1 NC, 2 IN/CLK (in), 3 IN (in), 4 IN (in), 5 IN (in), 6 IN (in), 7 IN (in), 8 NC, 9 IN (in), 10 IN (in), 11 IN (in), 12 IN (in), 13 IN (in), 14 GND (power), 15 NC, 16 IN/~{OE} (in), 17 IN (in), 18 IO/Q (io), 19 IO/Q (io), 20 IO/Q (io), 21 IO/Q (io), 22 NC, 23 IO/Q (io), 24 IO/Q (io), 25 IO/Q (io), 26 IO/Q (io), 27 IN (in), 28 VCC (power)

## GAL20V8B-25LP
designator U?
GAL20V8 High Performance E²CMOS PLD Generic Array Logic: 5.0 V, 25 ns, Commercial Grade; Published: 17-Jul-2002; LatestRevisionDate: 04-Mar-2005; LatestRevisionNote: Stylized 3D Model Added.; DatasheetVersion: 20v8_04, Aug-2000; PackageVersion: pkg_32, Aug-2005; PackageReference: PDIP24; Publisher: Altium Limited; PackageDescription: DIP; 24 Leads; Row Spacing 7.62 mm; Pitch 2.54 mm; Code_JEDEC: MS-001-AF; ComponentLink1Description: Manufacturer Link; ComponentLink1URL: http://www.latticesemi.com/products/spld/GAL/index.cfm; ComponentLink2Description: Datasheet; ComponentLink2URL: http://www.latticesemi.com/lit/docs/datasheets/pal_gal/20v8.pdf
footprint PDIP24 (DIP; 24 Leads; Row Spacing 7.62 mm; Pitch 2.54 mm)
3D model DIP24 (DIP; 24 Leads; Row Spacing 7.62 mm; Pitch 2.54 mm)
pins: 1 IN/CLK (in), 2 IN (in), 3 IN (in), 4 IN (in), 5 IN (in), 6 IN (in), 7 IN (in), 8 IN (in), 9 IN (in), 10 IN (in), 11 IN (in), 12 GND (power), 13 IN/~{OE} (in), 14 IN (in), 15 IO/Q (io), 16 IO/Q (io), 17 IO/Q (io), 18 IO/Q (io), 19 IO/Q (io), 20 IO/Q (io), 21 IO/Q (io), 22 IO/Q (io), 23 IN (in), 24 VCC (power)

## GAL20V8B-25LPI
designator U?
GAL20V8 High Performance E²CMOS PLD Generic Array Logic: 5.0 V, 25 ns, Industrial Grade; Published: 17-Jul-2002; LatestRevisionDate: 04-Mar-2005; LatestRevisionNote: Stylized 3D Model Added.; DatasheetVersion: 20v8_04, Aug-2000; PackageVersion: pkg_32, Aug-2005; PackageReference: PDIP24; Publisher: Altium Limited; PackageDescription: DIP; 24 Leads; Row Spacing 7.62 mm; Pitch 2.54 mm; Code_JEDEC: MS-001-AF; ComponentLink1Description: Manufacturer Link; ComponentLink1URL: http://www.latticesemi.com/products/spld/GAL/index.cfm; ComponentLink2Description: Datasheet; ComponentLink2URL: http://www.latticesemi.com/lit/docs/datasheets/pal_gal/20v8.pdf
footprint PDIP24 (DIP; 24 Leads; Row Spacing 7.62 mm; Pitch 2.54 mm)
3D model DIP24 (DIP; 24 Leads; Row Spacing 7.62 mm; Pitch 2.54 mm)
pins: 1 IN/CLK (in), 2 IN (in), 3 IN (in), 4 IN (in), 5 IN (in), 6 IN (in), 7 IN (in), 8 IN (in), 9 IN (in), 10 IN (in), 11 IN (in), 12 GND (power), 13 IN/~{OE} (in), 14 IN (in), 15 IO/Q (io), 16 IO/Q (io), 17 IO/Q (io), 18 IO/Q (io), 19 IO/Q (io), 20 IO/Q (io), 21 IO/Q (io), 22 IO/Q (io), 23 IN (in), 24 VCC (power)

## GAL20V8B-25QJ
designator U?
GAL20V8 High Performance E²CMOS PLD Generic Array Logic: 5.0 V, 25 ns, Commercial Grade; Published: 17-Jul-2002; LatestRevisionDate: 13-Apr-2006; LatestRevisionNote: IPC-7351 Footprint Added.; DatasheetVersion: 20v8_04, Aug-2000; PackageVersion: pkg_32, Aug-2005; PackageReference: PLCC28; Publisher: Altium Limited; PackageDescription: 28-Pin Leaded Chip Carrier 1.27 mm Pitch; Code_IPC: PLCC-28; ComponentLink1Description: Manufacturer Link; ComponentLink1URL: http://www.latticesemi.com/products/spld/GAL/index.cfm; ComponentLink2Description: Datasheet; ComponentLink2URL: http://www.latticesemi.com/lit/docs/datasheets/pal_gal/20v8.pdf
footprint PLCC28_N (Leaded Chip Carrier, 28-Leads, Body 11.5x11.5mm, Pitch 1.27mm, IPC Medium Density)
footprint PLCC28_L (Leaded Chip Carrier, 28-Leads, Body 11.5x11.5mm, Pitch 1.27mm, IPC High Density)
footprint PLCC28_M (Leaded Chip Carrier, 28-Leads, Body 11.5x11.5mm, Pitch 1.27mm, IPC Low Density)
3D model 20V8-PLCC28 (28-Pin Leaded Chip Carrier 1.27 mm Pitch)
pins: 1 NC, 2 IN/CLK (in), 3 IN (in), 4 IN (in), 5 IN (in), 6 IN (in), 7 IN (in), 8 NC, 9 IN (in), 10 IN (in), 11 IN (in), 12 IN (in), 13 IN (in), 14 GND (power), 15 NC, 16 IN/~{OE} (in), 17 IN (in), 18 IO/Q (io), 19 IO/Q (io), 20 IO/Q (io), 21 IO/Q (io), 22 NC, 23 IO/Q (io), 24 IO/Q (io), 25 IO/Q (io), 26 IO/Q (io), 27 IN (in), 28 VCC (power)

## GAL20V8B-25QJI
designator U?
GAL20V8 High Performance E²CMOS PLD Generic Array Logic: 5.0 V, 25 ns, Industrial Grade; Published: 17-Jul-2002; LatestRevisionDate: 13-Apr-2006; LatestRevisionNote: IPC-7351 Footprint Added.; DatasheetVersion: 20v8_04, Aug-2000; PackageVersion: pkg_32, Aug-2005; PackageReference: PLCC28; Publisher: Altium Limited; PackageDescription: 28-Pin Leaded Chip Carrier 1.27 mm Pitch; Code_IPC: PLCC-28; ComponentLink1Description: Manufacturer Link; ComponentLink1URL: http://www.latticesemi.com/products/spld/GAL/index.cfm; ComponentLink2Description: Datasheet; ComponentLink2URL: http://www.latticesemi.com/lit/docs/datasheets/pal_gal/20v8.pdf
footprint PLCC28_N (Leaded Chip Carrier, 28-Leads, Body 11.5x11.5mm, Pitch 1.27mm, IPC Medium Density)
footprint PLCC28_L (Leaded Chip Carrier, 28-Leads, Body 11.5x11.5mm, Pitch 1.27mm, IPC High Density)
footprint PLCC28_M (Leaded Chip Carrier, 28-Leads, Body 11.5x11.5mm, Pitch 1.27mm, IPC Low Density)
3D model 20V8-PLCC28 (28-Pin Leaded Chip Carrier 1.27 mm Pitch)
pins: 1 NC, 2 IN/CLK (in), 3 IN (in), 4 IN (in), 5 IN (in), 6 IN (in), 7 IN (in), 8 NC, 9 IN (in), 10 IN (in), 11 IN (in), 12 IN (in), 13 IN (in), 14 GND (power), 15 NC, 16 IN/~{OE} (in), 17 IN (in), 18 IO/Q (io), 19 IO/Q (io), 20 IO/Q (io), 21 IO/Q (io), 22 NC, 23 IO/Q (io), 24 IO/Q (io), 25 IO/Q (io), 26 IO/Q (io), 27 IN (in), 28 VCC (power)

## GAL20V8B-25QP
designator U?
GAL20V8 High Performance E²CMOS PLD Generic Array Logic: 5.0 V, 25 ns, Commercial Grade; Published: 17-Jul-2002; LatestRevisionDate: 04-Mar-2005; LatestRevisionNote: Stylized 3D Model Added.; DatasheetVersion: 20v8_04, Aug-2000; PackageVersion: pkg_32, Aug-2005; PackageReference: PDIP24; Publisher: Altium Limited; PackageDescription: DIP; 24 Leads; Row Spacing 7.62 mm; Pitch 2.54 mm; Code_JEDEC: MS-001-AF; ComponentLink1Description: Manufacturer Link; ComponentLink1URL: http://www.latticesemi.com/products/spld/GAL/index.cfm; ComponentLink2Description: Datasheet; ComponentLink2URL: http://www.latticesemi.com/lit/docs/datasheets/pal_gal/20v8.pdf
footprint PDIP24 (DIP; 24 Leads; Row Spacing 7.62 mm; Pitch 2.54 mm)
3D model DIP24 (DIP; 24 Leads; Row Spacing 7.62 mm; Pitch 2.54 mm)
pins: 1 IN/CLK (in), 2 IN (in), 3 IN (in), 4 IN (in), 5 IN (in), 6 IN (in), 7 IN (in), 8 IN (in), 9 IN (in), 10 IN (in), 11 IN (in), 12 GND (power), 13 IN/~{OE} (in), 14 IN (in), 15 IO/Q (io), 16 IO/Q (io), 17 IO/Q (io), 18 IO/Q (io), 19 IO/Q (io), 20 IO/Q (io), 21 IO/Q (io), 22 IO/Q (io), 23 IN (in), 24 VCC (power)

## GAL20V8B-25QPI
designator U?
GAL20V8 High Performance E²CMOS PLD Generic Array Logic: 5.0 V, 25 ns, Industrial Grade; Published: 17-Jul-2002; LatestRevisionDate: 04-Mar-2005; LatestRevisionNote: Stylized 3D Model Added.; DatasheetVersion: 20v8_04, Aug-2000; PackageVersion: pkg_32, Aug-2005; PackageReference: PDIP24; Publisher: Altium Limited; PackageDescription: DIP; 24 Leads; Row Spacing 7.62 mm; Pitch 2.54 mm; Code_JEDEC: MS-001-AF; ComponentLink1Description: Manufacturer Link; ComponentLink1URL: http://www.latticesemi.com/products/spld/GAL/index.cfm; ComponentLink2Description: Datasheet; ComponentLink2URL: http://www.latticesemi.com/lit/docs/datasheets/pal_gal/20v8.pdf
footprint PDIP24 (DIP; 24 Leads; Row Spacing 7.62 mm; Pitch 2.54 mm)
3D model DIP24 (DIP; 24 Leads; Row Spacing 7.62 mm; Pitch 2.54 mm)
pins: 1 IN/CLK (in), 2 IN (in), 3 IN (in), 4 IN (in), 5 IN (in), 6 IN (in), 7 IN (in), 8 IN (in), 9 IN (in), 10 IN (in), 11 IN (in), 12 GND (power), 13 IN/~{OE} (in), 14 IN (in), 15 IO/Q (io), 16 IO/Q (io), 17 IO/Q (io), 18 IO/Q (io), 19 IO/Q (io), 20 IO/Q (io), 21 IO/Q (io), 22 IO/Q (io), 23 IN (in), 24 VCC (power)

## GAL20V8C-5LJ
designator U?
GAL20V8 High Performance E²CMOS PLD Generic Array Logic: 5.0 V, 5 ns, Commercial Grade; Published: 8-Jun-2000; LatestRevisionDate: 13-Apr-2006; LatestRevisionNote: IPC-7351 Footprint Added.; DatasheetVersion: 20v8_04, Aug-2000; PackageVersion: pkg_32, Aug-2005; PackageReference: PLCC28; Publisher: Altium Limited; PackageDescription: 28-Pin Leaded Chip Carrier 1.27 mm Pitch; Code_IPC: PLCC-28; ComponentLink1Description: Manufacturer Link; ComponentLink1URL: http://www.latticesemi.com/products/spld/GAL/index.cfm; ComponentLink2Description: Datasheet; ComponentLink2URL: http://www.latticesemi.com/lit/docs/datasheets/pal_gal/20v8.pdf
footprint PLCC28_N (Leaded Chip Carrier, 28-Leads, Body 11.5x11.5mm, Pitch 1.27mm, IPC Medium Density)
footprint PLCC28_L (Leaded Chip Carrier, 28-Leads, Body 11.5x11.5mm, Pitch 1.27mm, IPC High Density)
footprint PLCC28_M (Leaded Chip Carrier, 28-Leads, Body 11.5x11.5mm, Pitch 1.27mm, IPC Low Density)
3D model 20V8-PLCC28 (28-Pin Leaded Chip Carrier 1.27 mm Pitch)
pins: 1 NC, 2 IN/CLK (in), 3 IN (in), 4 IN (in), 5 IN (in), 6 IN (in), 7 IN (in), 8 NC, 9 IN (in), 10 IN (in), 11 IN (in), 12 IN (in), 13 IN (in), 14 GND (power), 15 NC, 16 IN/~{OE} (in), 17 IN (in), 18 IO/Q (io), 19 IO/Q (io), 20 IO/Q (io), 21 IO/Q (io), 22 NC, 23 IO/Q (io), 24 IO/Q (io), 25 IO/Q (io), 26 IO/Q (io), 27 IN (in), 28 VCC (power)

## GAL20V8C-7LJ
designator U?
GAL20V8 High Performance E²CMOS PLD Generic Array Logic: 5.0 V, 7.5 ns, Commercial Grade; Published: 17-Jul-2002; LatestRevisionDate: 13-Apr-2006; LatestRevisionNote: IPC-7351 Footprint Added.; DatasheetVersion: 20v8_04, Aug-2000; PackageVersion: pkg_32, Aug-2005; PackageReference: PLCC28; Publisher: Altium Limited; PackageDescription: 28-Pin Leaded Chip Carrier 1.27 mm Pitch; Code_IPC: PLCC-28; ComponentLink1Description: Manufacturer Link; ComponentLink1URL: http://www.latticesemi.com/products/spld/GAL/index.cfm; ComponentLink2Description: Datasheet; ComponentLink2URL: http://www.latticesemi.com/lit/docs/datasheets/pal_gal/20v8.pdf
footprint PLCC28_N (Leaded Chip Carrier, 28-Leads, Body 11.5x11.5mm, Pitch 1.27mm, IPC Medium Density)
footprint PLCC28_L (Leaded Chip Carrier, 28-Leads, Body 11.5x11.5mm, Pitch 1.27mm, IPC High Density)
footprint PLCC28_M (Leaded Chip Carrier, 28-Leads, Body 11.5x11.5mm, Pitch 1.27mm, IPC Low Density)
3D model 20V8-PLCC28 (28-Pin Leaded Chip Carrier 1.27 mm Pitch)
pins: 1 NC, 2 IN/CLK (in), 3 IN (in), 4 IN (in), 5 IN (in), 6 IN (in), 7 IN (in), 8 NC, 9 IN (in), 10 IN (in), 11 IN (in), 12 IN (in), 13 IN (in), 14 GND (power), 15 NC, 16 IN/~{OE} (in), 17 IN (in), 18 IO/Q (io), 19 IO/Q (io), 20 IO/Q (io), 21 IO/Q (io), 22 NC, 23 IO/Q (io), 24 IO/Q (io), 25 IO/Q (io), 26 IO/Q (io), 27 IN (in), 28 VCC (power)

## GAL20V8C-10LJ
designator U?
GAL20V8 High Performance E²CMOS PLD Generic Array Logic: 5.0 V, 10 ns, Commercial Grade; Published: 17-Jul-2002; LatestRevisionDate: 13-Apr-2006; LatestRevisionNote: IPC-7351 Footprint Added.; DatasheetVersion: 20v8_04, Aug-2000; PackageVersion: pkg_32, Aug-2005; PackageReference: PLCC28; Publisher: Altium Limited; PackageDescription: 28-Pin Leaded Chip Carrier 1.27 mm Pitch; Code_IPC: PLCC-28; ComponentLink1Description: Manufacturer Link; ComponentLink1URL: http://www.latticesemi.com/products/spld/GAL/index.cfm; ComponentLink2Description: Datasheet; ComponentLink2URL: http://www.latticesemi.com/lit/docs/datasheets/pal_gal/20v8.pdf
footprint PLCC28_N (Leaded Chip Carrier, 28-Leads, Body 11.5x11.5mm, Pitch 1.27mm, IPC Medium Density)
footprint PLCC28_L (Leaded Chip Carrier, 28-Leads, Body 11.5x11.5mm, Pitch 1.27mm, IPC High Density)
footprint PLCC28_M (Leaded Chip Carrier, 28-Leads, Body 11.5x11.5mm, Pitch 1.27mm, IPC Low Density)
3D model 20V8-PLCC28 (28-Pin Leaded Chip Carrier 1.27 mm Pitch)
pins: 1 NC, 2 IN/CLK (in), 3 IN (in), 4 IN (in), 5 IN (in), 6 IN (in), 7 IN (in), 8 NC, 9 IN (in), 10 IN (in), 11 IN (in), 12 IN (in), 13 IN (in), 14 GND (power), 15 NC, 16 IN/~{OE} (in), 17 IN (in), 18 IO/Q (io), 19 IO/Q (io), 20 IO/Q (io), 21 IO/Q (io), 22 NC, 23 IO/Q (io), 24 IO/Q (io), 25 IO/Q (io), 26 IO/Q (io), 27 IN (in), 28 VCC (power)

## GAL20V8C-10LJI
designator U?
GAL20V8 High Performance E²CMOS PLD Generic Array Logic: 5.0 V, 10 ns, Industrial Grade; Published: 17-Jul-2002; LatestRevisionDate: 13-Apr-2006; LatestRevisionNote: IPC-7351 Footprint Added.; DatasheetVersion: 20v8_04, Aug-2000; PackageVersion: pkg_32, Aug-2005; PackageReference: PLCC28; Publisher: Altium Limited; PackageDescription: 28-Pin Leaded Chip Carrier 1.27 mm Pitch; Code_IPC: PLCC-28; ComponentLink1Description: Manufacturer Link; ComponentLink1URL: http://www.latticesemi.com/products/spld/GAL/index.cfm; ComponentLink2Description: Datasheet; ComponentLink2URL: http://www.latticesemi.com/lit/docs/datasheets/pal_gal/20v8.pdf
footprint PLCC28_N (Leaded Chip Carrier, 28-Leads, Body 11.5x11.5mm, Pitch 1.27mm, IPC Medium Density)
footprint PLCC28_L (Leaded Chip Carrier, 28-Leads, Body 11.5x11.5mm, Pitch 1.27mm, IPC High Density)
footprint PLCC28_M (Leaded Chip Carrier, 28-Leads, Body 11.5x11.5mm, Pitch 1.27mm, IPC Low Density)
3D model 20V8-PLCC28 (28-Pin Leaded Chip Carrier 1.27 mm Pitch)
pins: 1 NC, 2 IN/CLK (in), 3 IN (in), 4 IN (in), 5 IN (in), 6 IN (in), 7 IN (in), 8 NC, 9 IN (in), 10 IN (in), 11 IN (in), 12 IN (in), 13 IN (in), 14 GND (power), 15 NC, 16 IN/~{OE} (in), 17 IN (in), 18 IO/Q (io), 19 IO/Q (io), 20 IO/Q (io), 21 IO/Q (io), 22 NC, 23 IO/Q (io), 24 IO/Q (io), 25 IO/Q (io), 26 IO/Q (io), 27 IN (in), 28 VCC (power)

## GAL20V8Z-12QJ
designator U?
GAL20V8Z Zero Power E²CMOS PLD Generic Array Logic: 5.0 V, 12 ns, Commercial Grade; Published: 17-Jul-2002; LatestRevisionDate: 13-Apr-2006; LatestRevisionNote: IPC-7351 Footprint Added.; DatasheetVersion: 20v8zzd_03, Dec-1997; PackageVersion: pkg_32, Aug-2005; PackageReference: PLCC28; Publisher: Altium Limited; PackageDescription: 28-Pin Leaded Chip Carrier 1.27 mm Pitch; Code_IPC: PLCC-28; ComponentLink1Description: Manufacturer Link; ComponentLink1URL: http://www.latticesemi.com/products/spld/GAL/index.cfm; ComponentLink2Description: Datasheet; ComponentLink2URL: http://www.latticesemi.com/lit/docs/datasheets/pal_gal/20v8zzd.pdf
footprint PLCC28_N (Leaded Chip Carrier, 28-Leads, Body 11.5x11.5mm, Pitch 1.27mm, IPC Medium Density)
footprint PLCC28_L (Leaded Chip Carrier, 28-Leads, Body 11.5x11.5mm, Pitch 1.27mm, IPC High Density)
footprint PLCC28_M (Leaded Chip Carrier, 28-Leads, Body 11.5x11.5mm, Pitch 1.27mm, IPC Low Density)
3D model 20V8Z-PLCC28 (28-Pin Leaded Chip Carrier 1.27 mm Pitch)
pins: 1 NC, 2 IN/CLK (in), 3 IN (in), 4 IN (in), 5 IN/DPP (in), 6 IN (in), 7 IN (in), 8 NC, 9 IN (in), 10 IN (in), 11 IN (in), 12 IN (in), 13 IN (in), 14 GND (power), 15 NC, 16 IN/~{OE} (in), 17 IN (in), 18 IO/Q (io), 19 IO/Q (io), 20 IO/Q (io), 21 IO/Q (io), 22 NC, 23 IO/Q (io), 24 IO/Q (io), 25 IO/Q (io), 26 IO/Q (io), 27 IN (in), 28 VCC (power)

## GAL20V8Z-12QP
designator U?
GAL20V8Z Zero Power E²CMOS PLD Generic Array Logic: 5.0 V, 12 ns, Commercial Grade; Published: 17-Jul-2002; LatestRevisionDate: 04-Mar-2005; LatestRevisionNote: Stylized 3D Model Added.; DatasheetVersion: 20v8zzd_03, Dec-1997; PackageVersion: pkg_32, Aug-2005; PackageReference: PDIP24; Publisher: Altium Limited; PackageDescription: DIP; 24 Leads; Row Spacing 7.62 mm; Pitch 2.54 mm; Code_JEDEC: MS-001-AF; ComponentLink1Description: Manufacturer Link; ComponentLink1URL: http://www.latticesemi.com/products/spld/GAL/index.cfm; ComponentLink2Description: Datasheet; ComponentLink2URL: http://www.latticesemi.com/lit/docs/datasheets/pal_gal/20v8zzd.pdf
footprint PDIP24 (DIP; 24 Leads; Row Spacing 7.62 mm; Pitch 2.54 mm)
3D model DIP24 (DIP; 24 Leads; Row Spacing 7.62 mm; Pitch 2.54 mm)
pins: 1 IN/CLK (in), 2 IN (in), 3 IN (in), 4 IN/DPP (in), 5 IN (in), 6 IN (in), 7 IN (in), 8 IN (in), 9 IN (in), 10 IN (in), 11 IN (in), 12 GND (power), 13 IN/~{OE} (in), 14 IN (in), 15 IO/Q (io), 16 IO/Q (io), 17 IO/Q (io), 18 IO/Q (io), 19 IO/Q (io), 20 IO/Q (io), 21 IO/Q (io), 22 IO/Q (io), 23 IN (in), 24 VCC (power)

## GAL20V8Z-15QJ
designator U?
GAL20V8Z Zero Power E²CMOS PLD Generic Array Logic: 5.0 V, 15 ns, Commercial Grade; Published: 8-Jun-2000; LatestRevisionDate: 13-Apr-2006; LatestRevisionNote: IPC-7351 Footprint Added.; DatasheetVersion: 20v8zzd_03, Dec-1997; PackageVersion: pkg_32, Aug-2005; PackageReference: PLCC28; Publisher: Altium Limited; PackageDescription: 28-Pin Leaded Chip Carrier 1.27 mm Pitch; Code_IPC: PLCC-28; ComponentLink1Description: Manufacturer Link; ComponentLink1URL: http://www.latticesemi.com/products/spld/GAL/index.cfm; ComponentLink2Description: Datasheet; ComponentLink2URL: http://www.latticesemi.com/lit/docs/datasheets/pal_gal/20v8zzd.pdf
footprint PLCC28_N (Leaded Chip Carrier, 28-Leads, Body 11.5x11.5mm, Pitch 1.27mm, IPC Medium Density)
footprint PLCC28_L (Leaded Chip Carrier, 28-Leads, Body 11.5x11.5mm, Pitch 1.27mm, IPC High Density)
footprint PLCC28_M (Leaded Chip Carrier, 28-Leads, Body 11.5x11.5mm, Pitch 1.27mm, IPC Low Density)
3D model 20V8Z-PLCC28 (28-Pin Leaded Chip Carrier 1.27 mm Pitch)
pins: 1 NC, 2 IN/CLK (in), 3 IN (in), 4 IN (in), 5 IN/DPP (in), 6 IN (in), 7 IN (in), 8 NC, 9 IN (in), 10 IN (in), 11 IN (in), 12 IN (in), 13 IN (in), 14 GND (power), 15 NC, 16 IN/~{OE} (in), 17 IN (in), 18 IO/Q (io), 19 IO/Q (io), 20 IO/Q (io), 21 IO/Q (io), 22 NC, 23 IO/Q (io), 24 IO/Q (io), 25 IO/Q (io), 26 IO/Q (io), 27 IN (in), 28 VCC (power)